# Altium schematic symbol library Schlib1.SchLib: 48 symbols
Pins are listed as number, name and electrical type; pins without a type are passive.

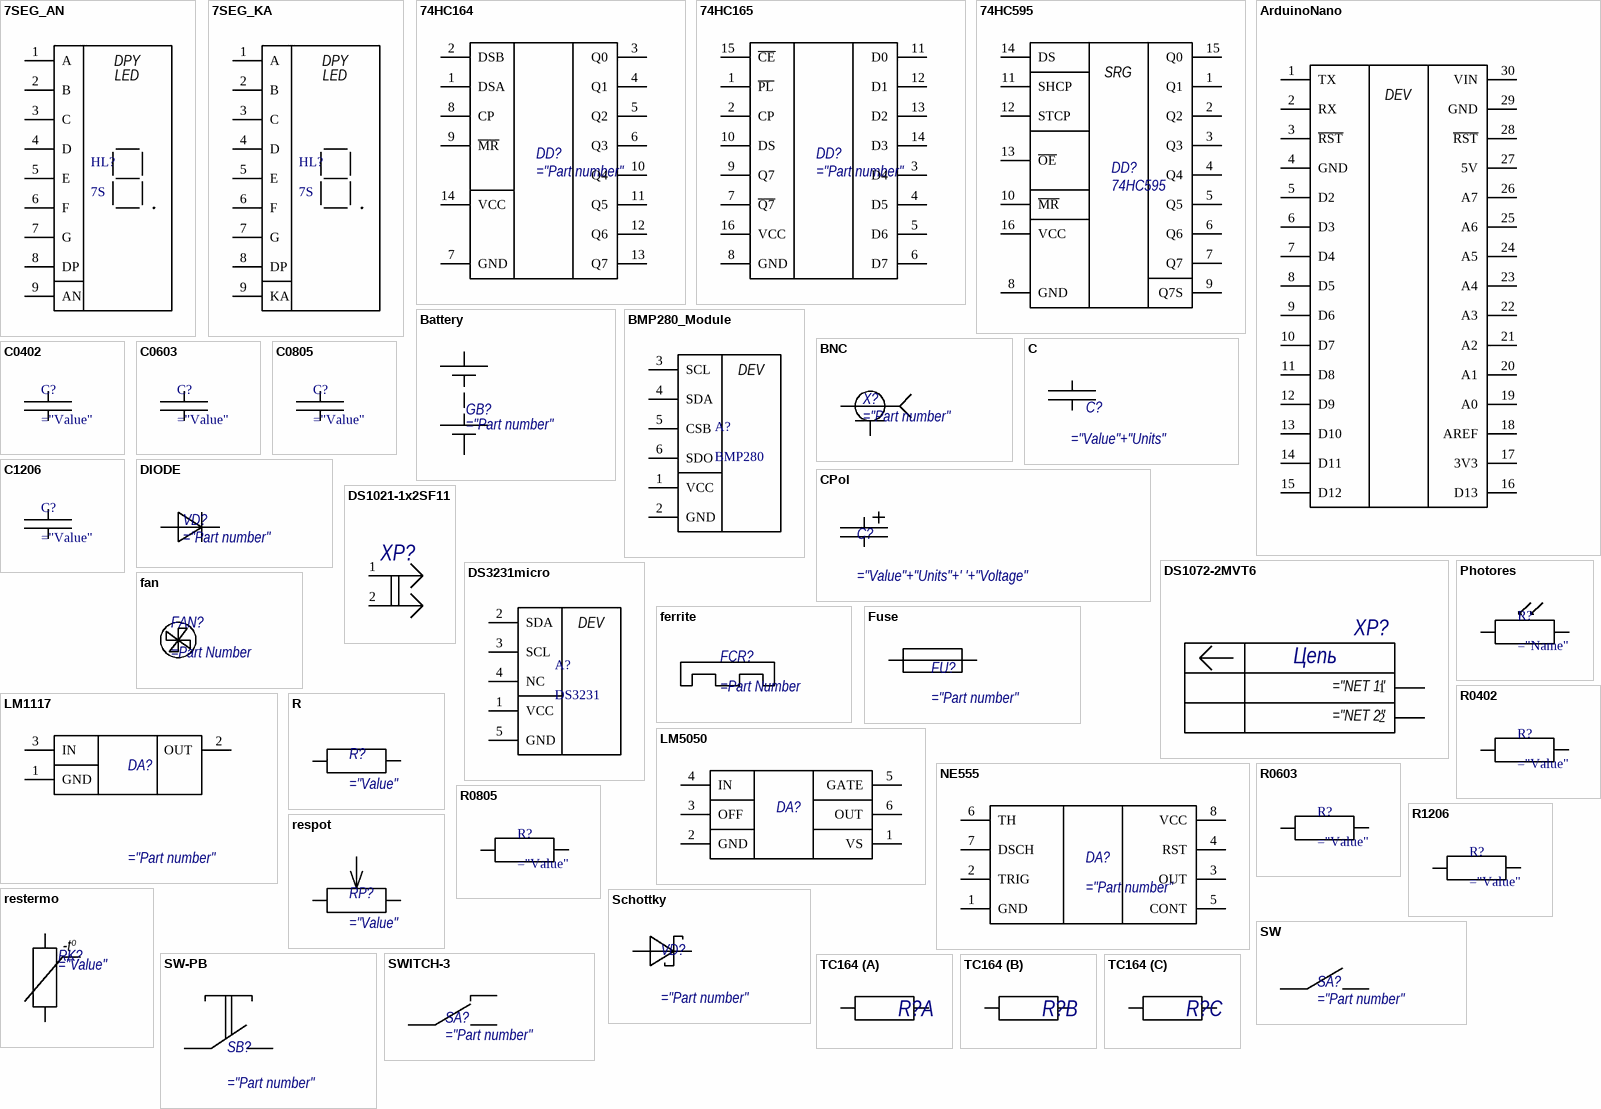
[diagram p0: symbols 7SEG_AN to TC164]

## 7SEG_AN
designator HL?, comment 7S
pins: 1 A, 2 B, 3 C, 4 D, 5 E, 6 F, 7 G, 8 DP, 9 AN
text: DPY; LED

## 7SEG_KA
designator HL?, comment 7S
pins: 1 A, 2 B, 3 C, 4 D, 5 E, 6 F, 7 G, 8 DP, 9 KA
text: DPY; LED

## 74HC164
designator DD?
pins: 1 DSA, 2 DSB, 3 Q0, 4 Q1, 5 Q2, 6 Q3, 7 GND, 8 CP, 9 ~{MR}, 10 Q4, 11 Q5, 12 Q6, 13 Q7, 14 VCC

## 74HC165
designator DD?
pins: 1 ~{PL}, 2 CP, 3 D4, 4 D5, 5 D6, 6 D7, 7 ~{Q7}, 8 GND, 9 Q7, 10 DS, 11 D0, 12 D1, 13 D2, 14 D3, 15 ~{CE}, 16 VCC

## 74HC595
designator DD?
footprint SO-16
footprint TSSOP16 (TSOP, 16-Leads, Body 5,00x4,40mm, Pitch 0,65mm, IPC High Density)
footprint SSOP16
footprint DIP-16
pins: 1 Q1, 2 Q2, 3 Q3, 4 Q4, 5 Q5, 6 Q6, 7 Q7, 8 GND, 9 Q7S, 10 ~{MR}, 11 SHCP, 12 STCP, 13 ~{OE}, 14 DS, 15 Q0, 16 VCC
text: SRG

## ArduinoNano
designator A?, comment Arduino Nano
footprint ArduinoNano
pins: 1 TX, 2 RX, 3 ~{RST}, 4 GND, 5 D2, 6 D3, 7 D4, 8 D5, 9 D6, 10 D7, 11 D8, 12 D9, 13 D10, 14 D11, 15 D12, 16 D13, 17 3V3, 18 AREF, 19 A0, 20 A1, 21 A2, 22 A3, 23 A4, 24 A5, 25 A6, 26 A7, 27 5V, 28 ~{RST}, 29 GND, 30 VIN
text: DEV

## Battery
designator GB?
pins: 1 +, 2 -
1 alternate drawing of the same symbol

## BMP280_Module
designator A?, comment BMP280
footprint BMP280_Module
pins: 1 VCC, 2 GND, 3 SCL, 4 SDA, 5 CSB, 6 SDO
text: DEV

## BNC
designator X?
pins: 1, 2

## C
designator C?
signal-integrity model Cap
pins: 1, 2

## C0402
designator C?
Ceramic SMT, L*W 1.0x0.5mm, H=0.5mm
footprint C0402
pins: 1, 2

## C0603
designator C?
Ceramic SMT, L*W 1.6x0.8mm, H=(0.8, 0.6)mm
footprint C0603
pins: 1, 2

## C0805
designator C?
Ceramic SMT, L*W 2.0x1.25mm, H=(1.25, 0.95, 1.6, 2.0)mm
footprint C0805
pins: 1, 2

## C1206
designator C?
Ceramic SMT, L*W 3.2x1.6mm, H=(1.6, 1.25, 0.95, 2.0, 2.5)mm
footprint C1206
pins: 1, 2

## CPol
designator C?
pins: 1, 2

## DIODE
designator VD?
pins: A, C

## DS1021-1x2SF11
designator XP?  (value not drawn)
2-pin Single Row Straight connector PLS; Manufacturer: Connfly; Voltage: 600Vdc; Current: 1A; Type: DS1021-1x2SF11
footprint PLS2-2
pins: 1, 2

## DS1072-2MVT6
designator XP?  (value not drawn)
2-pin Straight connector PWL-2; Manufacturer: Connfly; Voltage: 250Vac; Current: 3A; Type: DS1072-2MVT6; NET 2: ="NET 2"; NET 1: ="NET 1"
footprint PLS2-2
pins: 1, 2
text: Цепь

## DS3231micro
designator A?, comment DS3231
footprint DS3231micro
pins: 1 VCC, 2 SDA, 3 SCL, 4 NC, 5 GND
text: DEV

## fan
designator FAN?
1 alternate drawing of the same symbol

## ferrite
designator FCR?

## Fuse
designator FU?
pins: 1, 2

## LM1117
designator DA?
footprint SOT-223-4
pins: 1 GND, 2 OUT, 3 IN

## LM5050
designator DA?
pins: 1 VS, 2 GND, 3 OFF, 4 IN, 5 GATE, 6 OUT

## NE555
designator DA?
footprint DIP-8
pins: 1 GND, 2 TRIG, 3 OUT, 4 RST, 5 CONT, 6 TH, 7 DSCH, 8 VCC

## Photores
designator R?
footprint GL55 (Series Photoresistor)
pins: 1, 2

## R
designator R?
signal-integrity model Res
pins: 1, 2

## R0402
designator R?
SMT, L*W 1.0x0.5mm, H=0.32mm
footprint R0402
pins: 1, 2

## R0603
designator R?
SMT, L*W 1.6x1.8mm, H=0.45mm
footprint R0603
pins: 1, 2

## R0805
designator R?
SMT, L*W 2.0x1.25mm, H=0.5mm
footprint R0805
pins: 1, 2

## R1206
designator R?
SMT, L*W 3.2x1.6mm, H=0.5mm
footprint R1206
pins: 1, 2

## respot
designator RP?
pins: 1, 2, 3
1 alternate drawing of the same symbol

## restermo
designator RK?
pins: 1, 2
text: o; -t

## Schottky
designator VD?
pins: A, C

## SW
designator SA?
pins: 1, 2

## SW-PB
designator SB?
pins: 1, 2

## SWITCH-3
designator SA?
pins: 1, 2, 3

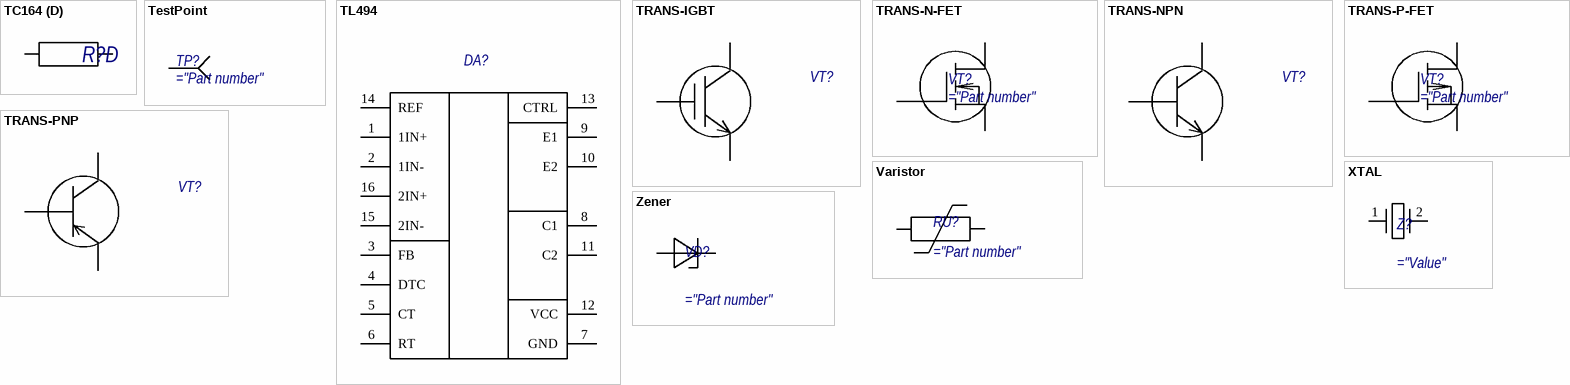
[diagram p1: symbols TC164 to Zener]

## TC164
designator R?
SMT Array 4x separ, L*W 2.0x1.0mm, H=0.4mm
footprint TC164-Array(4separ)-1206
part A pins: 1, 8
part B pins: 2, 7
part C pins: 3, 6
part D pins: 4, 5

## TestPoint
designator TP?  (no BOM)
pins: 1

## TL494
designator DA?
pins: 1 1IN+, 2 1IN-, 3 FB, 4 DTC, 5 CT, 6 RT, 7 GND, 8 C1, 9 E1, 10 E2, 11 C2, 12 VCC, 13 CTRL, 14 REF, 15 2IN-, 16 2IN+

## TRANS-IGBT
designator VT?
pins: C, E, G

## TRANS-N-FET
designator VT?
pins: D, G, S

## TRANS-NPN
designator VT?
pins: B, C, E

## TRANS-P-FET
designator VT?
pins: D, G, S

## TRANS-PNP
designator VT?
pins: B, C, E

## Varistor
designator RU?
pins: 1, 2

## XTAL
designator Z?
pins: 1 OSC1, 2 OSC2

## Zener
designator VD?
pins: A, C